# EAGLE library part LF351D (library ST Microelectronics)
Wide bandwidth single JFET operational amplifiers
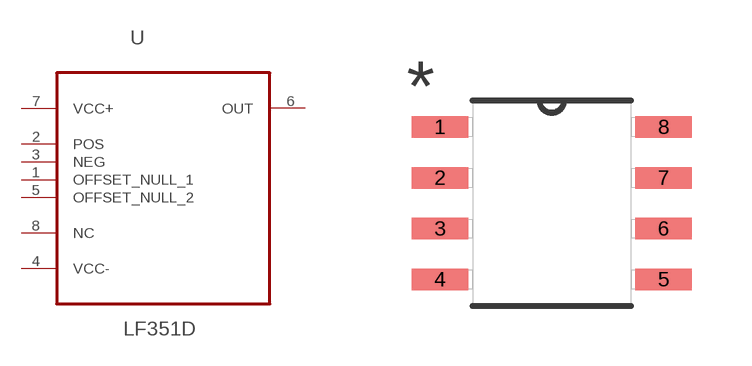
[diagram p67: symbol with the pads of SOIC127P600X175-8N; footprint SOIC127P600X175-8N]

Designator prefix U

## LF351D (MPN: LF351D; OC_FARNELL: 1467651; OC_NEWARK: 89K1288; PACKAGE: 8-SOIC; SUPPLIER: STMICROELECTRONICS)  [SOIC127P600X175-8N]
1  OFFSET_NULL_1  pas
2  POS  in
3  NEG  in
4  VCC-  pwr
5  OFFSET_NULL_2  pas
6  OUT  out
7  VCC+  pwr
8  NC  nc

## Footprint SOIC127P600X175-8N (pad centres in mm)
smd 1.422 x 0.533: 1 -2.794,1.905; 2 -2.794,0.635; 3 -2.794,-0.635; 4 -2.794,-1.905; 5 2.794,-1.905; 6 2.794,-0.635; 7 2.794,0.635; 8 2.794,1.905